# Altium footprint library 最小系统板K60P144-V4.0.PcbLib: 15 footprints
Each footprint in its own frame and in the unit in brackets; x right, y up, seen from the top. Pads: shape width x height; smd on the part's side, far side on the other; paste and mask are expansions set on the pad; w line width, h text height; cw(c..) or ccw(c..) is an arc to the next point about the centre after c.
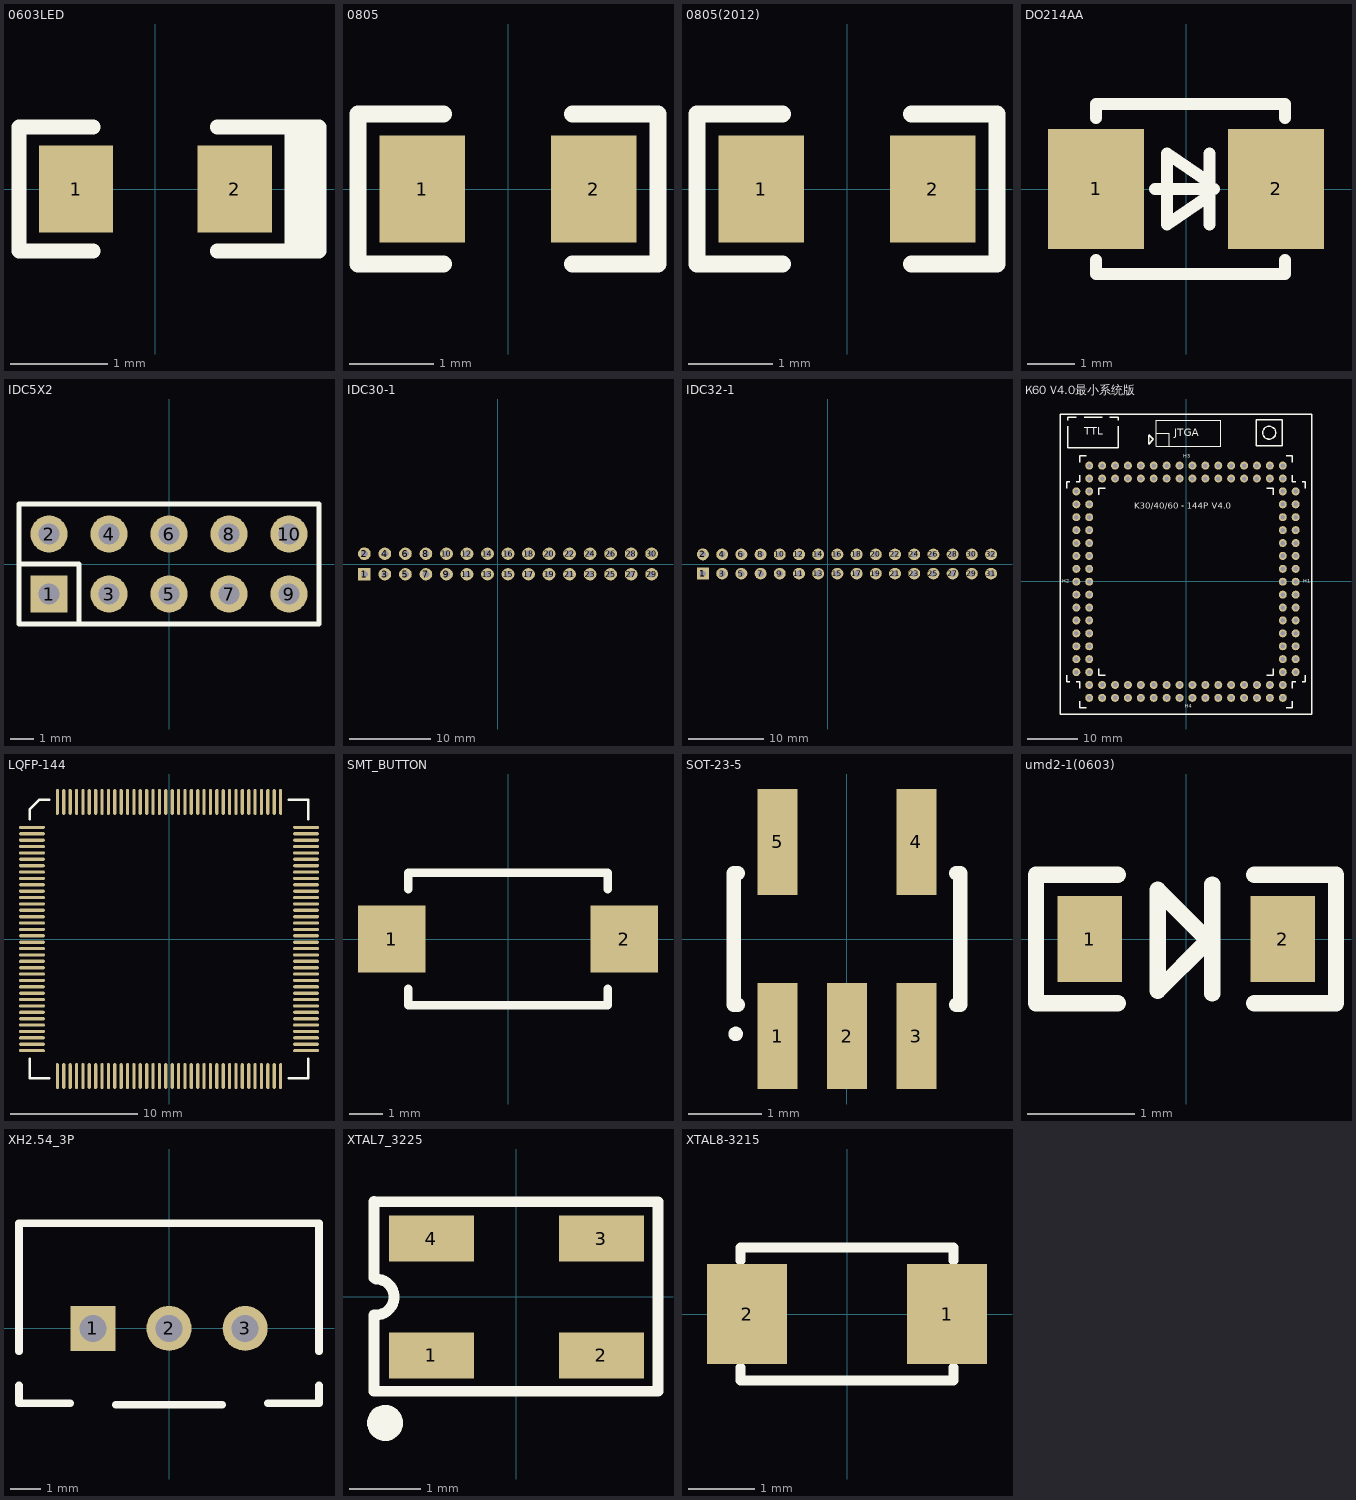
[diagram p0: the footprints below, top view; thin cyan lines are the x and y axes]

## 0603LED [mil]
pads (2):
  rect 30x35 smd: 1(-32,0) 2(32,0)
Top Overlay:
  lines w5.91: -25,-25 -55,-25 -55,25 -25,25 ; 25,25 66,25 66,-25 25,-25 55,-25 55,25 ; 61,-25 61,25
  lines w10: 58,-20 58,17

## 0805 [mil]
pads (2):
  rect 40x50 smd: 1(-40,0) 2(40,0)
Top Overlay:
  lines w7.87: -70,-35 -30,-35 ; -70,35 -30,35 ; 30,-35 70,-35 ; 30,35 70,35
  lines w8: -70,-35 -70,35 ; 70,-35 70,35

## 0805(2012) [mil]
pads (2):
  rect 40x50 smd: 1(-40,0) 2(40,0)
Top Overlay:
  lines w7.87: -70,-35 -30,-35 ; -70,35 -30,35 ; 30,-35 70,-35 ; 30,35 70,35
  lines w8: -70,-35 -70,35 ; 70,-35 70,35

## DO214AA [mil]
pads (2):
  rect 80x100 smd: 1(-75,0) 2(75,0)
Top Overlay:
  lines w10: -75,-59.05 -75,-70.87 82.48,-70.87 82.48,-59.05 ; -75,59.06 -75,70.87 82.48,70.87 82.48,59.06 ; -25.79,0 23.43,0 ; -15.94,-29.53 -15.94,29.53 ; -15.75,-29.53 19.68,-5.31 19.68,3.74 ; -15.75,29.53 19.68,5.31 ; 19.68,-29.53 19.68,29.53

## IDC5X2 [mil]
pads (10):
  rect 62x62 hole 35: 1(-200,-50)
  round 62 hole 35: 2(-200,50) 3(-100,-50) 4(-100,50) 5(0,-50) 6(0,50) 7(100,-50) 8(100,50) 9(200,-50) 10(200,50)
Top Overlay:
  lines w7.87: -250,0 -150,0 -150,-100 ; -250,-100 250,-100 250,100 -250,100 -250,-100

## IDC30-1 [mil]
pads (30):
  rect 62x62 hole 33.46: 1(-650,-50)
  round 62 hole 33.46: 2(-650,50)
  oval 62x60 hole 33.46: 3(-550,-50) 4(-550,50) 5(-450,-50) 6(-450,50) 7(-350,-50) 8(-350,50) 9(-250,-50) 10(-250,50) 11(-150,-50) 12(-150,50) 13(-50,-50) 14(-50,50) 15(50,-50) 16(50,50) 17(150,-50) 18(150,50) 19(250,-50) 20(250,50) 21(350,-50) 22(350,50) 23(450,-50) 24(450,50) 25(550,-50) 26(550,50) 27(650,-50) 28(650,50) 29(750,-50) 30(750,50)

## IDC32-1 [mil]
pads (32):
  rect 62x62 hole 33.46: 1(-650,-50)
  round 62 hole 33.46: 2(-650,50)
  oval 62x60 hole 33.46: 3(-550,-50) 4(-550,50) 5(-450,-50) 6(-450,50) 7(-350,-50) 8(-350,50) 9(-250,-50) 10(-250,50) 11(-150,-50) 12(-150,50) 13(-50,-50) 14(-50,50) 15(50,-50) 16(50,50) 17(150,-50) 18(150,50) 19(250,-50) 20(250,50) 21(350,-50) 22(350,50) 23(450,-50) 24(450,50) 25(550,-50) 26(550,50) 27(650,-50) 28(650,50) 29(750,-50) 30(750,50) 31(850,-50) 32(850,50)

## K60 V4.0最小系统版 [mil]
pads (124):
  round 62 hole 35: 101(850,-705) 102(750,-705) 103(850,-605) 104(750,-605) 105(850,-505) 106(750,-505) 107(850,-405) 108(750,-405) 109(850,-305) 110(750,-305) 111(850,-205) 112(750,-205) 113(850,-105) 114(750,-105) 115(850,-5) 116(750,-5) 117(850,95) 118(750,95) 119(850,195) 120(750,195) 121(850,295) 122(750,295) 123(850,395) 124(750,395) 125(850,495) 126(750,495) 127(850,595) 128(750,595) 129(850,695) 130(750,695) 201(-750,-705) 202(-850,-705) 203(-750,-605) 204(-850,-605) 205(-750,-505) 206(-850,-505) 207(-750,-405) 208(-850,-405) 209(-750,-305) 210(-850,-305) 211(-750,-205) 212(-850,-205) 213(-750,-105) 214(-850,-105) 215(-750,-5) 216(-850,-5) 217(-750,95) 218(-850,95) 219(-750,195) 220(-850,195) 221(-750,295) 222(-850,295) 223(-750,395) 224(-850,395) 225(-750,495) 226(-850,495) 227(-750,595) 228(-850,595) 229(-750,695) 230(-850,695) 301(750,895) 302(750,795) 303(650,895) 304(650,795) 305(550,895) 306(550,795) 307(450,895) 308(450,795) 309(350,895) 310(350,795) 311(250,895) 312(250,795) 313(150,895) 314(150,795) 315(50,895) 316(50,795) 317(-50,895) 318(-50,795) 319(-150,895) 320(-150,795) 321(-250,895) 322(-250,795) 323(-350,895) 324(-350,795) 325(-450,895) 326(-450,795) 327(-550,895) 328(-550,795) 329(-650,895) 330(-650,795) 331(-750,895) 332(-750,795) 401(750,-805) 402(750,-905) 403(650,-805) 404(650,-905) 405(550,-805) 406(550,-905) 407(450,-805) 408(450,-905) 409(350,-805) 410(350,-905) 411(250,-805) 412(250,-905) 413(150,-805) 414(150,-905) 415(50,-805) 416(50,-905) 417(-50,-805) 418(-50,-905) 419(-150,-805) 420(-150,-905) 421(-250,-805) 422(-250,-905) 423(-350,-805) 424(-350,-905) 425(-450,-805) 426(-450,-905) 427(-550,-805) 428(-550,-905) 429(-650,-805) 430(-650,-905) 431(-750,-805) 432(-750,-905)
Top Overlay:
  circle w10: c645,1150 r50
  lines w7.87: -230,1145 -130,1145 -130,1045 ; -230,1045 270,1045 270,1245 -230,1245 -230,1045
  lines w10: -925,-730 -925,-780 -900,-780 ; -925,720 -925,770 -900,770 ; -916.85,1200 -916.85,1032.2 -523.15,1032.2 -523.15,1200 ; -916.85,1245 -916.85,1268.43 -850,1268.43 ; -850,-780 -825,-780 -825,-830 ; -850,770 -825,770 -825,820 ; -825,-930 -825,-980 -775,-980 ; -825,920 -825,970 -775,970 ; -790,1270 -650,1270 ; -675,-680 -675,-730 -625,-730 ; -675,670 -675,720 -625,720 ; -590,1268.43 -523.15,1268.43 -523.15,1245 ; -290,1130 -290,1060 -252.5,1097.5 -287.5,1132.5 ; 625,-730 675,-730 675,-680 ; 625,720 675,720 675,670 ; 775,-980 825,-980 825,-930 ; 775,970 825,970 825,920 ; 825,-830 825,-780 850,-780 ; 825,820 825,770 850,770 ; 900,-780 925,-780 925,-730 ; 900,770 925,770 925,720 ; -975,-1030 975,-1030 975,-505 975,1295 -975,1295 -975,-405 -975,-1030 ; 545,1050 745,1050 745,1250 545,1250 545,1050
  text "K30/40/60 - 144P" at -400,545 h80
  text "JTGA" at -90,1105 h100
  text "H1" at 910,-25 h50
  text "H4" at -10,-995 h50
  text "H2" at -960,-25 h50
  text "H3" at -20,945 h50
  text "TTL" at -790,1115 h100
  text "V4.0" at 200,545 h80

## LQFP-144 [mil]
pads (144):
  oval 80x10 smd: 1(-423.07,344.49) 2(-423.07,324.8) 3(-423.07,305.12) 4(-423.07,285.43) 5(-423.07,265.75) 6(-423.07,246.06) 7(-423.07,226.38) 8(-423.07,206.69) 9(-423.07,187.01) 10(-423.07,167.32) 11(-423.07,147.64) 12(-423.07,127.95) 13(-423.07,108.27) 14(-423.07,88.58) 15(-423.07,68.9) 16(-423.07,49.21) 17(-423.07,29.53) 18(-423.07,9.84) 19(-423.07,-9.84) 20(-423.07,-29.53) 21(-423.07,-49.21) 22(-423.07,-68.9) 23(-423.07,-88.58) 24(-423.07,-108.27) 25(-423.07,-127.95) 26(-423.07,-147.64) 27(-423.07,-167.32) 28(-423.07,-187.01) 29(-423.07,-206.69) 30(-423.07,-226.38) 31(-423.07,-246.06) 32(-423.07,-265.75) 33(-423.07,-285.43) 34(-423.07,-305.12) 35(-423.07,-324.8) 36(-423.07,-344.49) 73(423.07,-344.49) 74(423.07,-324.8) 75(423.07,-305.12) 76(423.07,-285.43) 77(423.07,-265.75) 78(423.07,-246.06) 79(423.07,-226.38) 80(423.07,-206.69) 81(423.07,-187.01) 82(423.07,-167.32) 83(423.07,-147.64) 84(423.07,-127.95) 85(423.07,-108.27) 86(423.07,-88.58) 87(423.07,-68.9) 88(423.07,-49.21) 89(423.07,-29.53) 90(423.07,-9.84) 91(423.07,9.84) 92(423.07,29.53) 93(423.07,49.21) 94(423.07,68.9) 95(423.07,88.58) 96(423.07,108.27) 97(423.07,127.95) 98(423.07,147.64) 99(423.07,167.32) 100(423.07,187.01) 101(423.07,206.69) 102(423.07,226.38) 103(423.07,246.06) 104(423.07,265.75) 105(423.07,285.43) 106(423.07,305.12) 107(423.07,324.8) 108(423.07,344.49)
  oval 10x80 smd: 37(-344.49,-423.07) 38(-324.8,-423.07) 39(-305.12,-423.07) 40(-285.43,-423.07) 41(-265.75,-423.07) 42(-246.06,-423.07) 43(-226.38,-423.07) 44(-206.69,-423.07) 45(-187.01,-423.07) 46(-167.32,-423.07) 47(-147.64,-423.07) 48(-127.95,-423.07) 49(-108.27,-423.07) 50(-88.58,-423.07) 51(-68.9,-423.07) 52(-49.21,-423.07) 53(-29.53,-423.07) 54(-9.84,-423.07) 55(9.84,-423.07) 56(29.53,-423.07) 57(49.21,-423.07) 58(68.9,-423.07) 59(88.58,-423.07) 60(108.27,-423.07) 61(127.95,-423.07) 62(147.64,-423.07) 63(167.32,-423.07) 64(187.01,-423.07) 65(206.69,-423.07) 66(226.38,-423.07) 67(246.06,-423.07) 68(265.75,-423.07) 69(285.43,-423.07) 70(305.12,-423.07) 71(324.8,-423.07) 72(344.49,-423.07) 109(344.49,423.07) 110(324.8,423.07) 111(305.12,423.07) 112(285.43,423.07) 113(265.75,423.07) 114(246.06,423.07) 115(226.38,423.07) 116(206.69,423.07) 117(187.01,423.07) 118(167.32,423.07) 119(147.64,423.07) 120(127.95,423.07) 121(108.27,423.07) 122(88.58,423.07) 123(68.9,423.07) 124(49.21,423.07) 125(29.53,423.07) 126(9.84,423.07) 127(-9.84,423.07) 128(-29.53,423.07) 129(-49.21,423.07) 130(-68.9,423.07) 131(-88.58,423.07) 132(-108.27,423.07) 133(-127.95,423.07) 134(-147.64,423.07) 135(-167.32,423.07) 136(-187.01,423.07) 137(-206.69,423.07) 138(-226.38,423.07) 139(-246.06,423.07) 140(-265.75,423.07) 141(-285.43,423.07) 142(-305.12,423.07) 143(-324.8,423.07) 144(-344.49,423.07)
Top Overlay:
  lines w8: -430,-370 -430,-430 -370,-430 ; -430,370 -430,400 -400,430 -370,430 ; 370,-430 430,-430 430,-370 ; 370,430 430,430 430,370

## SMT_BUTTON [mil]
pads (2):
  rect 80x80 smd: 1(-137.8,0) 2(137.8,0)
Top Overlay:
  lines w10: -118.11,-59.06 -118.11,-78.74 118.11,-78.74 118.11,-59.06 ; -118.11,59.06 -118.11,78.74 118.11,78.74 118.11,59.06

## SOT-23-5 [mm] "SOT-23/SC-74A; 5 Leads; Body 3.1 x 3 mm, inc. leads (LxW max)"
height 1.45
pads (5):
  rect 0.55x1.45 smd: 1(-0.95,-1.329) 2(0,-1.329) 3(0.95,-1.329) 4(0.95,1.329) 5(-0.95,1.329)
Top Overlay:
  circle w0.1: c-1.525,-1.3 r0.05
  lines w0.2: -1.5,-0.9 -1.55,-0.9 -1.55,0.9 -1.5,0.9 ; 1.5,-0.9 1.55,-0.9 1.55,0.9 1.5,0.9

## umd2-1(0603) [mm]
pads (2):
  rect 0.6x0.8 smd: 1(-0.9,0) 2(0.9,0)
Top Overlay:
  lines w0.152: -0.638,-0.6 -1.4,-0.6 -1.4,0.6 -0.638,0.6 ; -0.265,-0.482 0.18,-0.037 ; -0.265,-0.457 -0.265,0.457 0.18,0.013 ; 0.243,-0.508 0.243,0.508 ; 0.632,-0.6 1.394,-0.6 1.394,0.6 0.632,0.6

## XH2.54_3P [mm]
pads (3):
  rect 1.5x1.5 hole 0.9: 1(-2.54,0)
  round 1.5 hole 0.9: 2(0,0) 3(2.54,0)
Top Overlay:
  lines w0.254: -5,-1.905 -5,-2.5 -3.302,-2.5 ; -5,-0.762 -5,3.5 5,3.5 5,-0.762 ; -1.778,-2.54 1.778,-2.54 ; 3.302,-2.5 5,-2.5 5,-1.905

## XTAL7_3225 [mil]
pads (4):
  rect 47.2x25.6 smd: 1(-47.25,-32.5) 2(47.25,-32.5) 3(47.25,32.5) 4(-47.25,32.5)
Top Overlay:
  circle w10: c-73,-70 r5
  lines w6: -79.06,-10 -79.06,-52.33 78.7,-52.33 78.7,52.93 -79.06,52.93 ; -79.06,10.67 -79.06,53 ; -78,-10 ccw(c-78,0) -78,10

## XTAL8-3215 [mm]
pads (2):
  rect 1.2x1.5 smd: 1(1.5,0) 2(-1.5,0)
Top Overlay:
  lines w0.152: -1.6,-0.8 -1.6,-1 1.6,-1 1.6,-0.8 ; -1.6,0.8 -1.6,1 1.6,1 1.6,0.8